# Altium schematic symbol library Cap_Kemet_T521B226M025ATE100_22uF.SchLib: 1 symbol
Pins are listed as number, name and electrical type; pins without a type are passive.

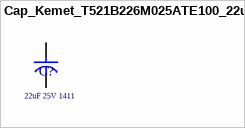
[diagram p0: symbol Cap_Kemet_T521B226M025ATE100_22uF]

## Cap_Kemet_T521B226M025ATE100_22uF
designator C?  Capacitance: 22uF 25V 1411  (hidden comment: Cap_Kemet_T521B226M025ATE100_22uF)
Tantalum Capacitors - Polymer SMD 25V 22uF 1311 20% ESR=100mOhms; Supplier Part Number 1: 80-T521B226M25ATE100; Supplier 1: Mouser
footprint Cap_Kemet_T521B226M025ATE100_22uF
pins: 1, 2